# EAGLE library part MC33771B (library GreenFuel)
MC33771B - SMARTMOS lithium-ion battery cell controller IC designed for automotive applications, such as hybrid electric (HEV) and electric vehicles (EV) along with industrial applications, such as energy storage systems (ESS) and uninterruptible power supply (UPS) systems. Specification : Type : 64-pin LQFP-EP Manufacture : NXP Manufacture PN: MC33771B-EP Certifications: ISO 26262 Lower limited operating range 7.6 V ≤ VPWR < 9.6 V Supply Voltage : 9.6 V ≤ VPWR ≤ 61.6 V operation, 75 V transient Body Size: 10.00mm x 10.00mm Supporting Material PIC32MX570F512H Datasheet <http://ww1.microchip.com/downloads/en/DeviceDoc/60001290E.pdf>
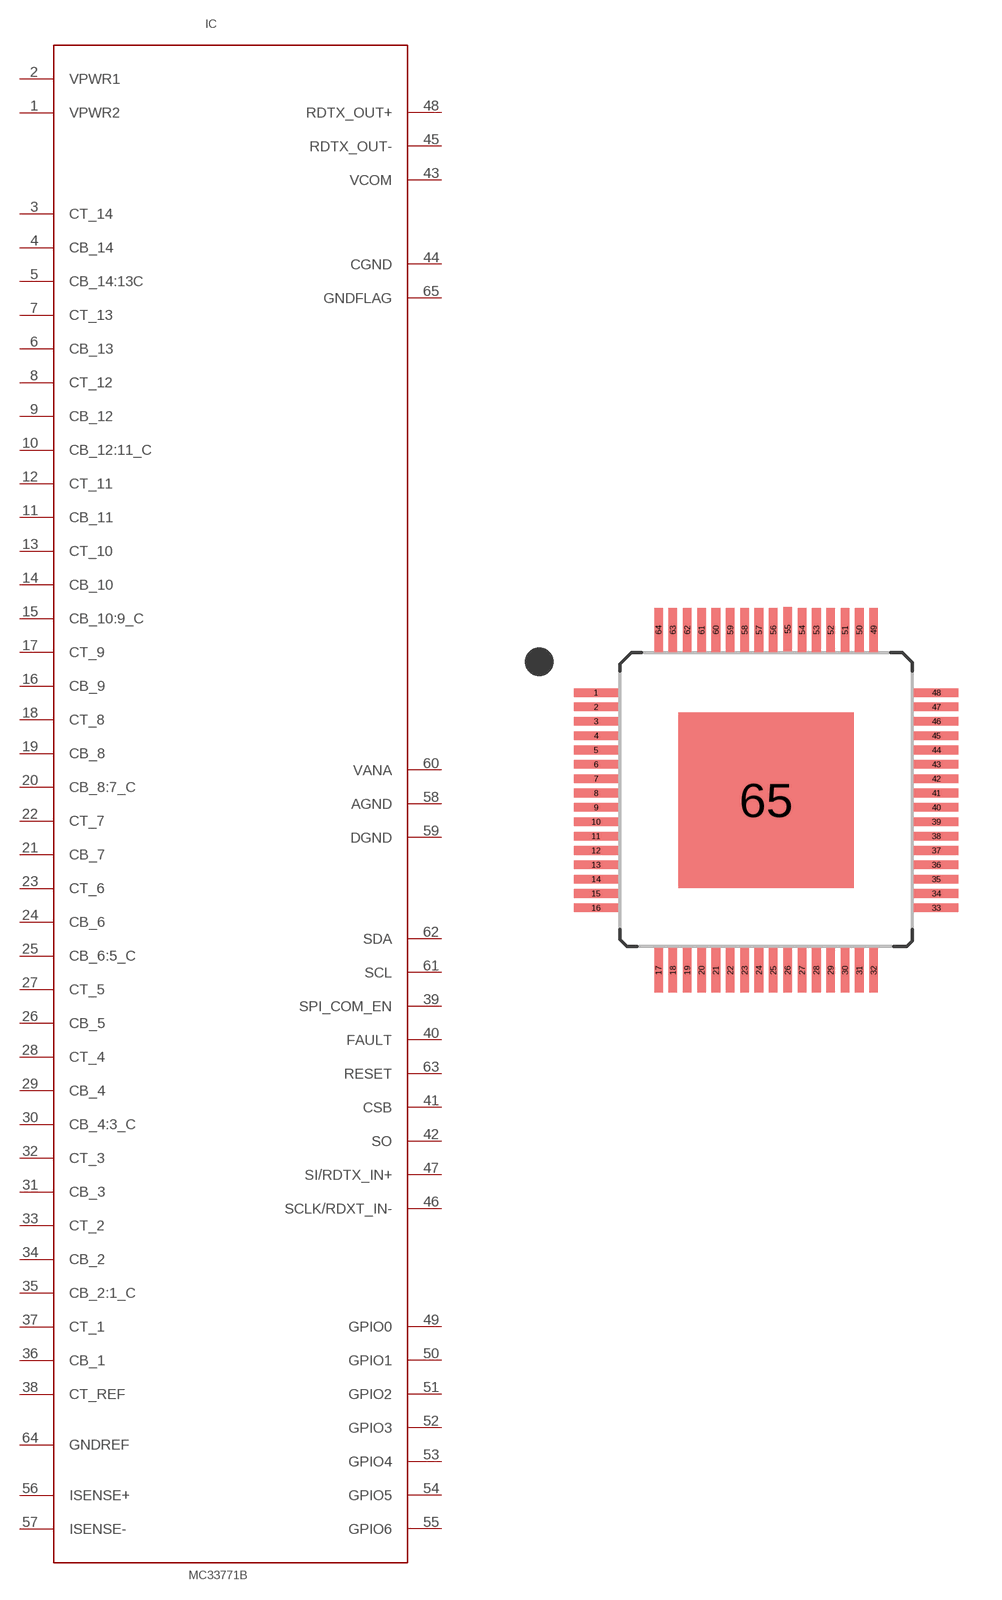
[diagram p1: symbol with the pads of 64PIN-LQFP; footprint 64PIN-LQFP]

Designator prefix IC

## MC33771BEP  [64PIN-LQFP]
1  VPWR2  in
2  VPWR1  in
3  CT_14  in
4  CB_14  out
5  CB_14:13C  out
6  CB_13  out
7  CT_13  in
8  CT_12  in
9  CB_12  out
10  CB_12:11_C  out
11  CB_11  out
12  CT_11  in
13  CT_10  in
14  CB_10  in
15  CB_10:9_C  out
16  CB_9  out
17  CT_9  in
18  CT_8  in
19  CB_8  out
20  CB_8:7_C  out
21  CB_7  out
22  CT_7  in
23  CT_6  in
24  CB_6  out
25  CB_6:5_C  out
26  CB_5  out
27  CT_5  in
28  CT_4  in
29  CB_4  out
30  CB_4:3_C  out
31  CB_3  out
32  CT_3  in
33  CT_2  in
34  CB_2  out
35  CB_2:1_C  out
36  CB_1  out
37  CT_1  in
38  CT_REF  in
39  SPI_COM_EN  in
40  FAULT  out
41  CSB  in
42  SO  out
43  VCOM  out
44  CGND  pwr
45  RDTX_OUT-
46  SCLK/RDXT_IN-
47  SI/RDTX_IN+
48  RDTX_OUT+
49  GPIO0
50  GPIO1
51  GPIO2
52  GPIO3
53  GPIO4
54  GPIO5
55  GPIO6
56  ISENSE+  in
57  ISENSE-  in
58  AGND  pwr
59  DGND  pwr
60  VANA  out
61  SCL
62  SDA
63  RESET  in
64  GNDREF  pwr
65  GNDFLAG  pwr

## Footprint 64PIN-LQFP (pad centres in mm)
LQFP, 10x10x1.4 PKG, 0.5 PITCH, 64LD 6.1x6.1 EXPOSED PAD
smd 1.55 x 0.3: 1 -5.93,3.75; 2 -5.93,3.25; 3 -5.93,2.75; 4 -5.93,2.25; 5 -5.93,1.75; 6 -5.93,1.25; 7 -5.93,0.75; 8 -5.93,0.25; 9 -5.93,-0.25; 10 -5.93,-0.75; 11 -5.93,-1.25; 12 -5.93,-1.75; 13 -5.93,-2.25; 14 -5.93,-2.75; 15 -5.93,-3.25; 16 -5.93,-3.75; 33 5.93,-3.75; 34 5.93,-3.25; 35 5.93,-2.75; 36 5.93,-2.25; 37 5.93,-1.75; 38 5.93,-1.25; 39 5.93,-0.75; 40 5.93,-0.25; 41 5.93,0.25; 42 5.93,0.75; 43 5.93,1.25; 44 5.93,1.75; 45 5.93,2.25; 46 5.93,2.75; 47 5.93,3.25; 48 5.93,3.75
smd 0.3 x 1.55: 17 -3.75,-5.93; 18 -3.25,-5.93; 19 -2.75,-5.93; 20 -2.25,-5.93; 21 -1.75,-5.93; 22 -1.25,-5.93; 23 -0.75,-5.93; 24 -0.25,-5.93; 25 0.25,-5.93; 26 0.75,-5.93; 27 1.25,-5.93; 28 1.75,-5.93; 29 2.25,-5.93; 30 2.75,-5.93; 31 3.25,-5.93; 32 3.75,-5.93; 49 3.75,5.93; 50 3.25,5.93; 51 2.75,5.93; 52 2.25,5.93; 53 1.75,5.93; 54 1.25,5.93; 55 0.75,5.963; 56 0.25,5.93; 57 -0.25,5.93; 58 -0.75,5.93; 59 -1.25,5.93; 60 -1.75,5.93; 61 -2.25,5.93; 62 -2.75,5.93; 63 -3.25,5.93; 64 -3.75,5.93
smd 6.1 x 6.1: 65 0,0